# EAGLE library part PINHDR_13 (library pinhdr_13)
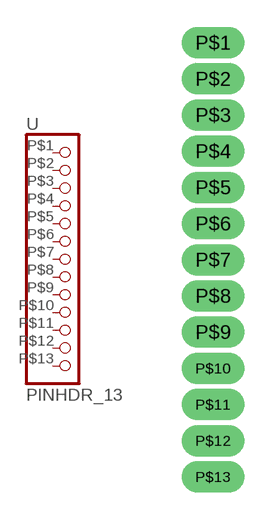
[diagram p43: symbol with the pads of PINHDR_13; footprint PINHDR_13]

Designator prefix -

## PINHDR_13  [PINHDR_13]
P$1  1  pas
P$2  2  pas
P$3  3  pas
P$4  4  pas
P$5  5  pas
P$6  6  pas
P$7  7  pas
P$8  8  pas
P$9  9  pas
P$10  10  pas
P$11  11  pas
P$12  12  pas
P$13  13  pas

## Footprint PINHDR_13 (pad centres in mm)
drill 0.6 pad 1.016 long: P$1 0,7.62; P$2 0,6.35; P$3 0,5.08; P$4 0,3.81; P$5 0,2.54; P$6 0,1.27; P$7 0,0; P$8 0,-1.27; P$9 0,-2.54; P$10 0,-3.81; P$11 0,-5.08; P$12 0,-6.35; P$13 0,-7.62